# EAGLE library part 32052-TRANSFORMER (library kickerchips)
32052 flyback transformer digikey #: 732-2129-1-ND
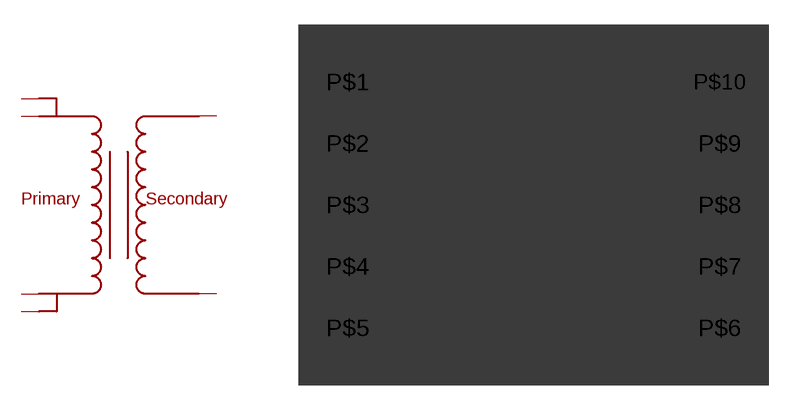
[diagram p3: symbol with the pads of 10-TRANSFORMER; footprint 10-TRANSFORMER]

Designator prefix -

## 32052-TRANSFORMER  [10-TRANSFORMER]
P$1  P$1
P$4  P$4
P$5  P$5
P$6  P$6
P$7  P$7
P$10  P$10

## Footprint 10-TRANSFORMER (pad centres in mm)
10-pin package for 32052 midcom transformer
smd 2.92 x 1.52: P$1 0,0; P$2 0,-3.75; P$3 0,-7.5; P$4 0,-11.25; P$5 0,-15; P$6 22.67,-15; P$7 22.67,-11.25; P$8 22.67,-7.5; P$9 22.67,-3.75; P$10 22.67,0